# Altium footprint library SamacSys.PcbLib: 53 footprints (part 4 of 4)
Each footprint in its own frame and in the unit in brackets; x right, y up, seen from the top. Pads: shape width x height; smd on the part's side, far side on the other; paste and mask are expansions set on the pad; w line width, h text height; cw(c..) or ccw(c..) is an arc to the next point about the centre after c.
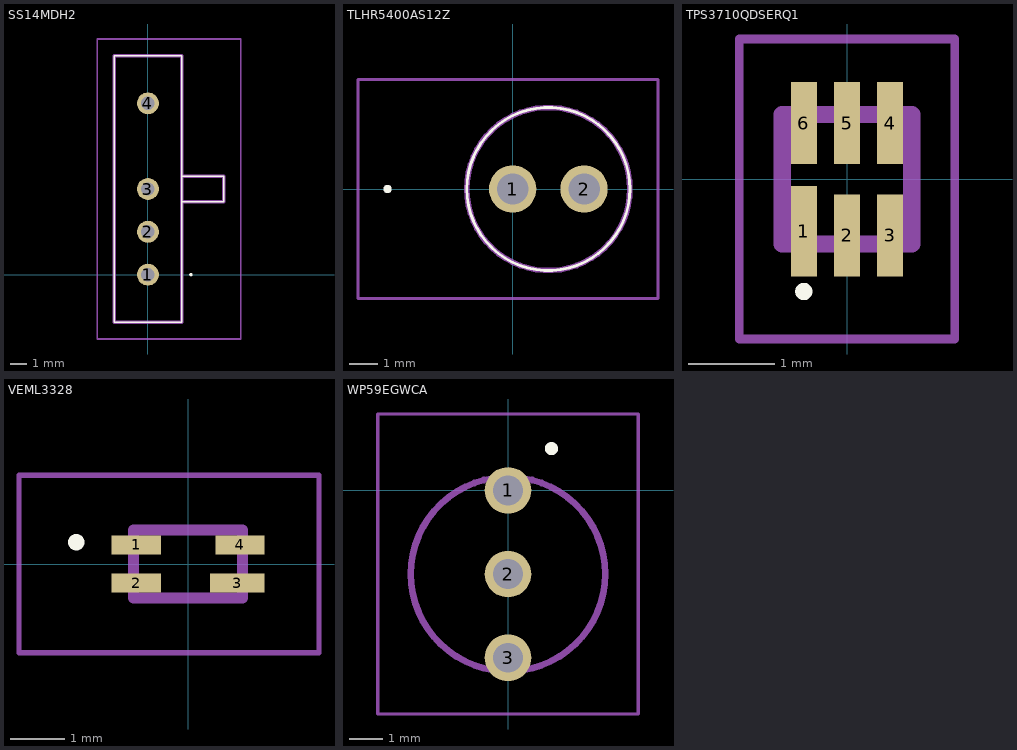
[diagram p3: the footprints below, top view; thin cyan lines are the x and y axes]

## SS14MDH2 [mm]
pads (4):
  round 1.3 hole 0.8: 1(0,0) 2(0,2.54) 3(0,5.08) 4(0,10.16)
Top Overlay:
  lines w0.1: 2,5.08 2,5.83 ; 2,5.83 2,4.33 4.5,4.33 4.5,5.83 2,5.83 ; -2,-2.82 -2,12.98 2,12.98 2,-2.82 -2,-2.82 ; 2.5,0 cw(c2.55,0) 2.6,0 cw(c2.55,0) 2.5,0
Mechanical 13:
  lines w0.2: -2,-2.82 -2,12.98 2,12.98 2,-2.82 -2,-2.82 ; 2,4.33 2,5.83 4.5,5.83 4.5,4.33 2,4.33
Mechanical 15:
  lines w0.1: -3,-3.82 -3,13.98 5.5,13.98 5.5,-3.82 -3,-3.82
3D body "SS14MDH2.stp": height 5.1, standoff -5, extent -2,-2.82 4.5,12.98

## TLHR5400AS12Z [mm]
pads (2):
  round 1.68 hole 1.12: 1(0,0) 2(2.54,0)
Top Overlay:
  lines w0.1: -1.63,0 ccw(c1.27,0) 4.17,0 ccw(c1.27,0) -1.63,0
  lines w0.2: -4.5,0 ccw(c-4.45,0) -4.4,0 ; -4.5,0 cw(c-4.45,0) -4.4,0 ; -4.5,0 ccw(c-4.45,0) -4.4,0
Mechanical 13:
  lines w0.2: -1.63,0 ccw(c1.27,0) 4.17,0 ccw(c1.27,0) -1.63,0
Mechanical 15:
  lines w0.1: -5.5,-3.9 5.17,-3.9 5.17,3.9 -5.5,3.9 -5.5,-3.9
3D body "TLHR5400-AS12Z.stp": height 12.9, standoff -5, extent -1.63,-2.9 4.17,2.9

## TPS3710QDSERQ1 [mm]
pads (6):
  rect 0.3x1.05 smd: 1(-0.5,-0.6)
  rect 0.3x0.95 smd: 2(0,-0.65) 3(0.5,-0.65) 4(0.5,0.65) 5(0,0.65) 6(-0.5,0.65)
Top Overlay:
  lines w0.1: -0.55,-1.3 ccw(c-0.5,-1.3) -0.45,-1.3 ccw(c-0.5,-1.3) -0.55,-1.3
Mechanical 13:
  lines w0.2: -0.75,-0.75 -0.75,0.75 0.75,0.75 0.75,-0.75 -0.75,-0.75
Mechanical 15:
  lines w0.1: -1.25,-1.85 -1.25,1.625 1.25,1.625 1.25,-1.85 -1.25,-1.85

## VEML3328 [mm]
pads (4):
  rect 0.9x0.35 smd: 1(-0.95,0.35) 2(-0.95,-0.35) 4(0.95,0.35)
  rect 1x0.35 smd: 3(0.9,-0.35)
Top Overlay:
  lines w0.2: -2.05,0.35 ccw(c-2.05,0.4) -2.05,0.45 ; -2.05,0.35 cw(c-2.05,0.4) -2.05,0.45 ; -2.05,0.35 ccw(c-2.05,0.4) -2.05,0.45
Mechanical 13:
  lines w0.2: -1,-0.625 1,-0.625 1,0.625 -1,0.625 -1,-0.625
Mechanical 15:
  lines w0.1: -3.1,-1.625 2.4,-1.625 2.4,1.625 -3.1,1.625 -3.1,-1.625
3D body "VEML3328.stp": height 1.2, standoff 0, extent -1,-0.625 1,0.625

## WP59EGWCA [mm]
pads (3):
  round 1.416 hole 0.91: 1(0,0) 2(0,-2.54) 3(0,-5.08)
Top Overlay:
  lines w0.3: 1.27,1.27 ccw(c1.32,1.27) 1.37,1.27 ccw(c1.32,1.27) 1.27,1.27
Mechanical 13:
  lines w0.2: -2.95,-2.54 ccw(c0,-2.54) 2.95,-2.54 ccw(c0,-2.54) -2.95,-2.54
Mechanical 15:
  lines w0.1: -3.95,-6.788 3.95,-6.788 3.95,2.32 -3.95,2.32 -3.95,-6.788
3D body "WP59EGW_CA.stp": height 8.95, standoff -5, extent -2.95,-5.49 2.95,0.41